# Altium schematic symbol library ne555.SchLib: 2 symbols
Pins are listed as number, name and electrical type; pins without a type are passive.

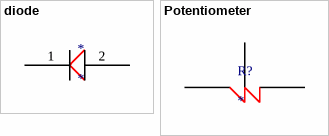
[diagram p0: symbols diode to Potentiometer]

## diode
designator *
footprint Through hole diode
pins: 1, 2

## Potentiometer
designator R?
3 pin potentiometer, Through hole component; Parameter 1: *
footprint potentiometer (3 pin potentiometer , Through hole component)
pins: 1, 2, 3